# EAGLE library part TYCO_10PIN_1MM_SMD (library FPCConnectors)
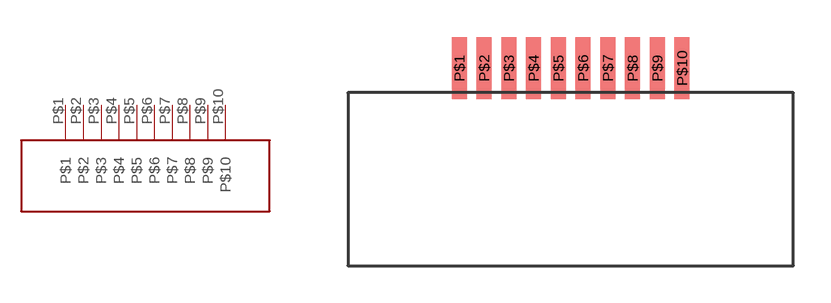
[diagram p1: symbol with the pads of TYCO_1MM_10PIN; footprint TYCO_1MM_10PIN]

Designator prefix -

## TYCO_10PIN_1MM_SMD10PIN  [TYCO_1MM_10PIN]
P$1  P$1
P$2  P$2
P$3  P$3
P$4  P$4
P$5  P$5
P$6  P$6
P$7  P$7
P$8  P$8
P$9  P$9
P$10  P$10

## Footprint TYCO_1MM_10PIN (pad centres in mm)
smd 0.61 x 2.5: P$1 -4.5,6; P$2 -3.5,6; P$3 -2.5,6; P$4 -1.5,6; P$5 -0.5,6; P$6 0.5,6; P$7 1.5,6; P$8 2.5,6; P$9 3.5,6; P$10 4.5,6